# Altium integrated library TI Power Management Power Modules.IntLib: 831 symbols (part 31 of 44)
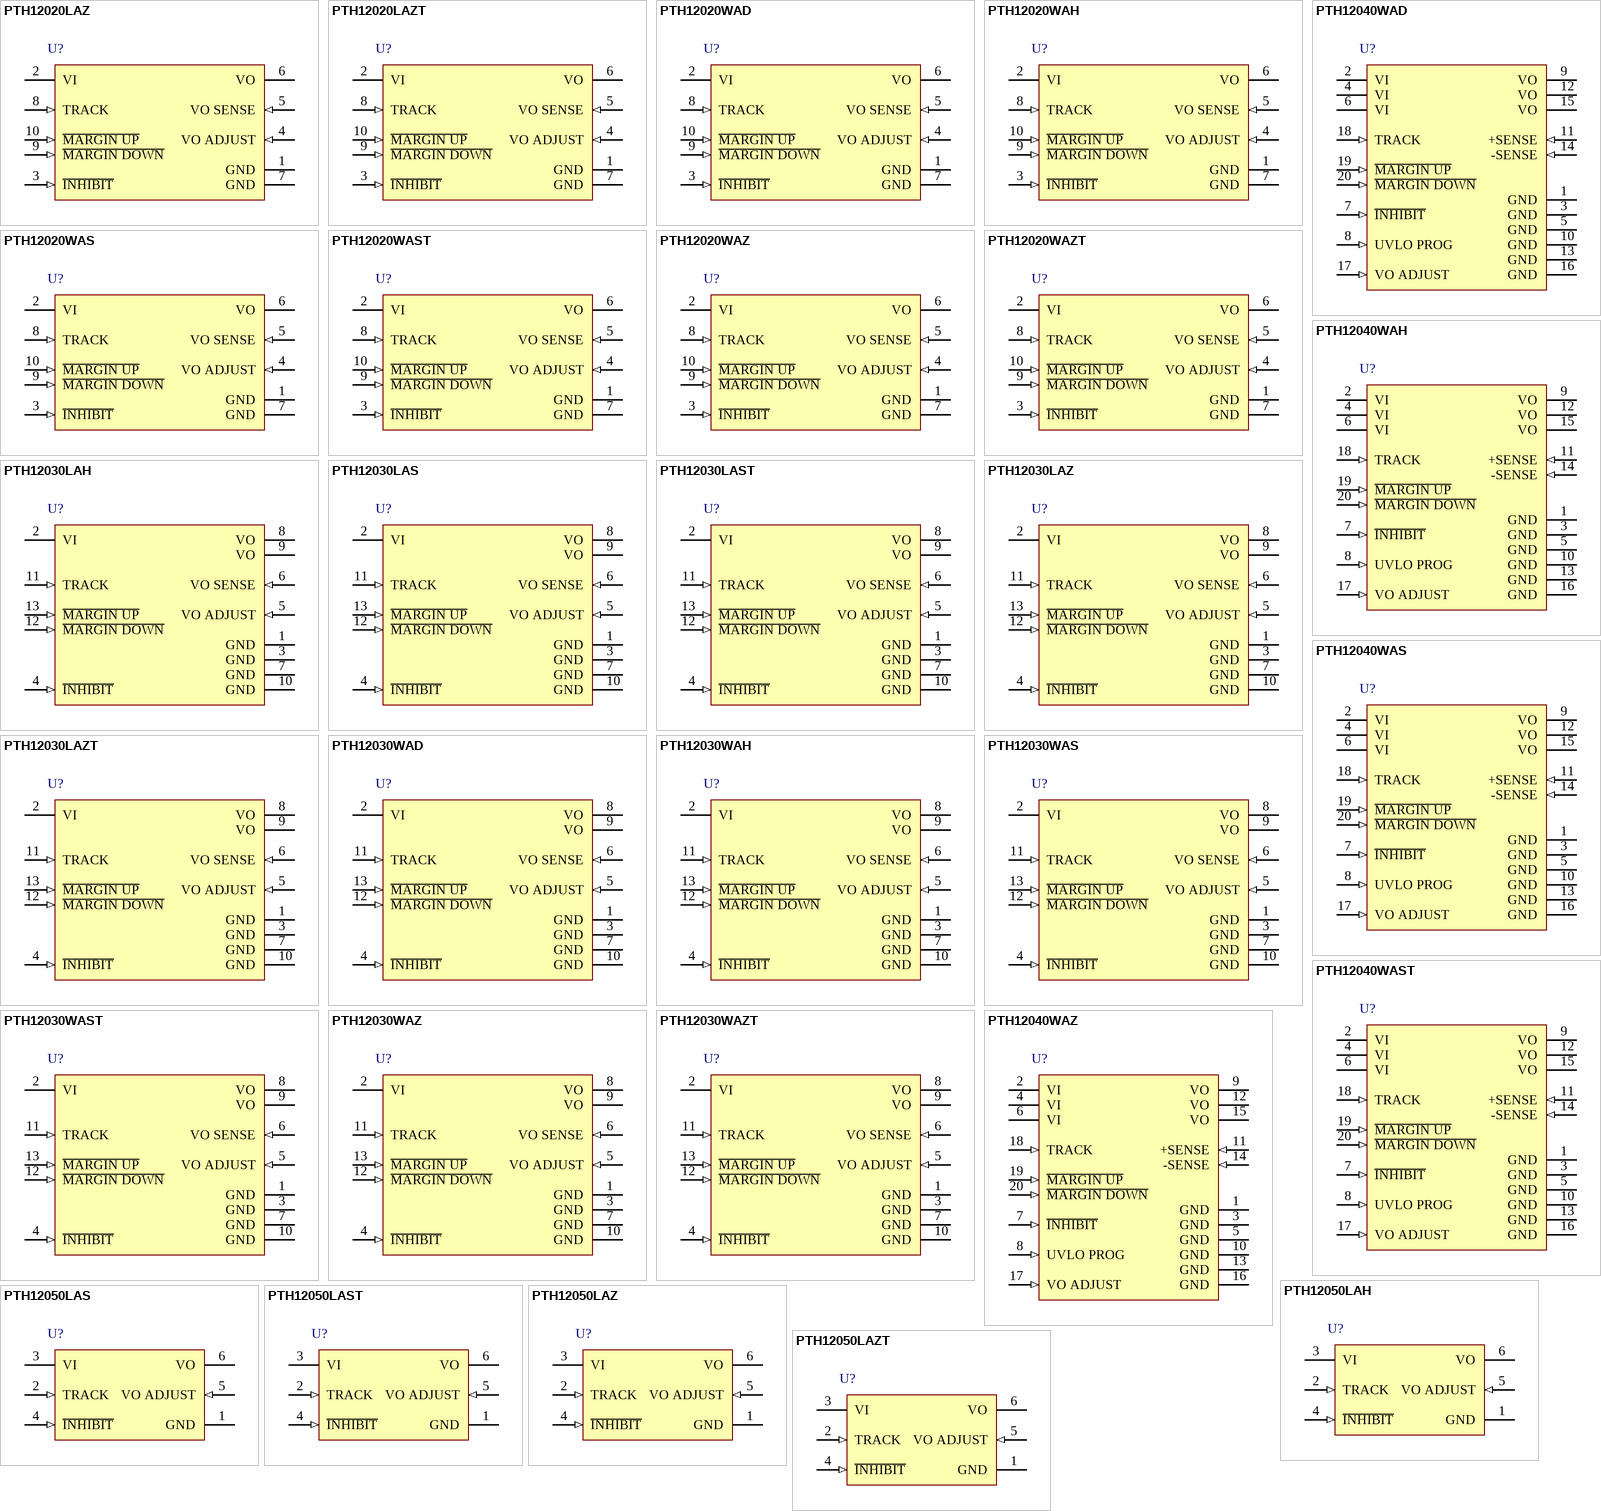
[diagram p53: symbols PTH12020LAZ to PTH12050LAZT]

## PTH12020WAS
designator U?
1.2 to 5.5 V, 18 A, 12 V Input Non-Isolated Wide Adjust Module, -40 to 85 degC, 10-pin Module (EUL10); Manufacturer: Texas Instruments; PartNumber: PTH12020WAS; Eco-Plan: TBD; Iout(Max)(A): 18; Regulated Outputs(#): 1; SubFamily: Non-Isolated POL; Vin(Max)(V): 13.2; Vin(Min)(V): 10.8; VO Adjustable: TRUE; Vout(Max)(V): 5.5; Vout(Min)(V): 1.2; DatasheetVersion: SLTS208I; PackageVersion: 4204987-3/C; PackageReference: EUL10; PackageDescription: 10-Pin Plastic Special Shape, Body 22.1 x 37.97 mm; Supplier 1: Digi-Key; Supplier Part Number 1: 296-20464-ND; Supplier 2: Newark; Supplier Part Number 2: 73H4320; Supplier 3: Mouser; Supplier Part Number 3: 595-PTH12020WAS; Mounting Technology: Surface Mount; ComponentLink1Description: Manufacturer URL; ComponentLink1URL: http://www.ti.com/; ComponentLink2Description: Datasheet; ComponentLink2URL: http://www.ti.com/general/docs/lit/getliterature.tsp?genericPartNumber=PTH12020W&fileType=pdf; ComponentLink3Description: Package Specification; ComponentLink3URL: http://www.ti.com/lit/ml/mpds138b/mpds138b.pdf; ComponentLink4Description: URL Link1; ComponentLink4URL: Samples URL:http://www.ti.com/product/pth12020w#samples
footprint TI-EUL10_V (Module, 10-Leads, Body 37.97x22.1 mm)
pins: 1 GND (power) "This is the common ground connection for the Vin and Vout power connections. It is also the 0 VDC reference for the control inputs.", 2 VI (power) "The positive input voltage power node to the module, which is referenced to common GND.", 3 ~{INHIBIT} (in) "The Inhibit pin is an open-collector/drain negative logic input that is referenced to GND. Applying a lowlevel ground signal to this input disables the module’s output and turns off the output voltage. When the Inhibit (See Datasheet)", 4 VO ADJUST (in) "A 1% resistor must be connected directly between this pin and GND (pin 7) to set the output voltage of the module higher than its lowest value. The temperature stability of the resistor should be 100 ppm/degreesC (or better).(See Datasheet)", 5 VO SENSE (in) "The sense input allows the regulation circuit to compensate for voltage drop between the module and the load. For optimal voltage accuracy Vo Sense should be connected to Vout. It can also be left disconnected.", 6 VO (power) "The regulated positive power output with respect to the GND node.", 7 GND (power) "This is the common ground connection for the Vin and Vout power connections. It is also the 0 VDC reference for the control inputs.", 8 TRACK (in) "This is an analog control input that enables the output voltage to follow an external voltage. This pin becomes active typically 20 ms after the input voltage has been applied, and allows direct control of the output voltage (See Datasheet)", 9 ~{MARGIN DOWN} (in) "When this input is asserted to GND, the output voltage is decreased by 5% from the nominal. The input requires an open-collector (open-drain) interface. It is not TTL compatible. A lower percent change can be accomodated (See Datasheet)", 10 ~{MARGIN UP} (in) "When this input is asserted to GND, the output voltage is increased by 5%. The input requires an open-collector (open-drain) interface. It is not TTL compatible. The percent change can be reduced with a series resistor. For (See Datasheet)"

## PTH12020WAST
designator U?
1.2 to 5.5 V, 18 A, 12 V Input Non-Isolated Wide Adjust Module, -40 to 85 degC, 10-pin Module (EUL10); Manufacturer: Texas Instruments; PartNumber: PTH12020WAST; Eco-Plan: TBD; Iout(Max)(A): 18; Regulated Outputs(#): 1; SubFamily: Non-Isolated POL; Vin(Max)(V): 13.2; Vin(Min)(V): 10.8; VO Adjustable: TRUE; Vout(Max)(V): 5.5; Vout(Min)(V): 1.2; DatasheetVersion: SLTS208I; PackageVersion: 4204987-3/C; PackageReference: EUL10; PackageDescription: 10-Pin Plastic Special Shape, Body 22.1 x 37.97 mm; Supplier 1: Digi-Key; Supplier Part Number 1: PTH12020WAST-ND; Supplier 2: Newark; Supplier Part Number 2: 01J0650; Supplier 3: Mouser; Supplier Part Number 3: 595-PTH12020WAST; Mounting Technology: Surface Mount; ComponentLink1Description: Manufacturer URL; ComponentLink1URL: http://www.ti.com/; ComponentLink2Description: Datasheet; ComponentLink2URL: http://www.ti.com/general/docs/lit/getliterature.tsp?genericPartNumber=PTH12020W&fileType=pdf; ComponentLink3Description: Package Specification; ComponentLink3URL: http://www.ti.com/lit/ml/mpds138b/mpds138b.pdf; ComponentLink4Description: URL Link1; ComponentLink4URL: Samples URL:http://www.ti.com/product/pth12020w#samples
footprint TI-EUL10_V (Module, 10-Leads, Body 37.97x22.1 mm)
pins: 1 GND (power) "This is the common ground connection for the Vin and Vout power connections. It is also the 0 VDC reference for the control inputs.", 2 VI (power) "The positive input voltage power node to the module, which is referenced to common GND.", 3 ~{INHIBIT} (in) "The Inhibit pin is an open-collector/drain negative logic input that is referenced to GND. Applying a lowlevel ground signal to this input disables the module’s output and turns off the output voltage. When the Inhibit (See Datasheet)", 4 VO ADJUST (in) "A 1% resistor must be connected directly between this pin and GND (pin 7) to set the output voltage of the module higher than its lowest value. The temperature stability of the resistor should be 100 ppm/degreesC (or better).(See Datasheet)", 5 VO SENSE (in) "The sense input allows the regulation circuit to compensate for voltage drop between the module and the load. For optimal voltage accuracy Vo Sense should be connected to Vout. It can also be left disconnected.", 6 VO (power) "The regulated positive power output with respect to the GND node.", 7 GND (power) "This is the common ground connection for the Vin and Vout power connections. It is also the 0 VDC reference for the control inputs.", 8 TRACK (in) "This is an analog control input that enables the output voltage to follow an external voltage. This pin becomes active typically 20 ms after the input voltage has been applied, and allows direct control of the output voltage (See Datasheet)", 9 ~{MARGIN DOWN} (in) "When this input is asserted to GND, the output voltage is decreased by 5% from the nominal. The input requires an open-collector (open-drain) interface. It is not TTL compatible. A lower percent change can be accomodated (See Datasheet)", 10 ~{MARGIN UP} (in) "When this input is asserted to GND, the output voltage is increased by 5%. The input requires an open-collector (open-drain) interface. It is not TTL compatible. The percent change can be reduced with a series resistor. For (See Datasheet)"

## PTH12020WAZ
designator U?
1.2 to 5.5 V, 18 A, 12 V Input Non-Isolated Wide Adjust Module, -40 to 85 degC, 10-pin Module (EUL10), Pb-Free (RoHS); Manufacturer: Texas Instruments; PartNumber: PTH12020WAZ; Iout(Max)(A): 18; Regulated Outputs(#): 1; SubFamily: Non-Isolated POL; Vin(Max)(V): 13.2; Vin(Min)(V): 10.8; VO Adjustable: TRUE; Vout(Max)(V): 5.5; Vout(Min)(V): 1.2; DatasheetVersion: SLTS208I; PackageVersion: 4204987-3/C; PackageReference: EUL10; PackageDescription: 10-Pin Plastic Special Shape, Body 22.1 x 37.97 mm; Supplier 1: Digi-Key; Supplier Part Number 1: 296-20465-ND; Supplier 2: Newark; Supplier Part Number 2: 37K0744; Supplier 3: Mouser; Supplier Part Number 3: 595-PTH12020WAZ; Eco-Plan: Pb-Free (RoHS); Mounting Technology: Surface Mount; ComponentLink1Description: Manufacturer URL; ComponentLink1URL: http://www.ti.com/; ComponentLink2Description: Datasheet; ComponentLink2URL: http://www.ti.com/general/docs/lit/getliterature.tsp?genericPartNumber=PTH12020W&fileType=pdf; ComponentLink3Description: Package Specification; ComponentLink3URL: http://www.ti.com/lit/ml/mpds138b/mpds138b.pdf; ComponentLink4Description: URL Link1; ComponentLink4URL: Samples URL:http://www.ti.com/product/pth12020w#samples
footprint TI-EUL10_V (Module, 10-Leads, Body 37.97x22.1 mm)
pins: 1 GND (power) "This is the common ground connection for the Vin and Vout power connections. It is also the 0 VDC reference for the control inputs.", 2 VI (power) "The positive input voltage power node to the module, which is referenced to common GND.", 3 ~{INHIBIT} (in) "The Inhibit pin is an open-collector/drain negative logic input that is referenced to GND. Applying a lowlevel ground signal to this input disables the module’s output and turns off the output voltage. When the Inhibit (See Datasheet)", 4 VO ADJUST (in) "A 1% resistor must be connected directly between this pin and GND (pin 7) to set the output voltage of the module higher than its lowest value. The temperature stability of the resistor should be 100 ppm/degreesC (or better).(See Datasheet)", 5 VO SENSE (in) "The sense input allows the regulation circuit to compensate for voltage drop between the module and the load. For optimal voltage accuracy Vo Sense should be connected to Vout. It can also be left disconnected.", 6 VO (power) "The regulated positive power output with respect to the GND node.", 7 GND (power) "This is the common ground connection for the Vin and Vout power connections. It is also the 0 VDC reference for the control inputs.", 8 TRACK (in) "This is an analog control input that enables the output voltage to follow an external voltage. This pin becomes active typically 20 ms after the input voltage has been applied, and allows direct control of the output voltage (See Datasheet)", 9 ~{MARGIN DOWN} (in) "When this input is asserted to GND, the output voltage is decreased by 5% from the nominal. The input requires an open-collector (open-drain) interface. It is not TTL compatible. A lower percent change can be accomodated (See Datasheet)", 10 ~{MARGIN UP} (in) "When this input is asserted to GND, the output voltage is increased by 5%. The input requires an open-collector (open-drain) interface. It is not TTL compatible. The percent change can be reduced with a series resistor. For (See Datasheet)"

## PTH12020WAZT
designator U?
1.2 to 5.5 V, 18 A, 12 V Input Non-Isolated Wide Adjust Module, -40 to 85 degC, 10-pin Module (EUL10), Pb-Free (RoHS); Manufacturer: Texas Instruments; PartNumber: PTH12020WAZT; Iout(Max)(A): 18; Regulated Outputs(#): 1; SubFamily: Non-Isolated POL; Vin(Max)(V): 13.2; Vin(Min)(V): 10.8; VO Adjustable: TRUE; Vout(Max)(V): 5.5; Vout(Min)(V): 1.2; DatasheetVersion: SLTS208I; PackageVersion: 4204987-3/C; PackageReference: EUL10; PackageDescription: 10-Pin Plastic Special Shape, Body 22.1 x 37.97 mm; Supplier 1: Digi-Key; Supplier Part Number 1: PTH12020WAZT-ND; Supplier 2: Newark; Supplier Part Number 2: 37K0745; Supplier 3: Mouser; Supplier Part Number 3: 595-PTH12020WAZT; Eco-Plan: Pb-Free (RoHS); Mounting Technology: Surface Mount; ComponentLink1Description: Manufacturer URL; ComponentLink1URL: http://www.ti.com/; ComponentLink2Description: Datasheet; ComponentLink2URL: http://www.ti.com/general/docs/lit/getliterature.tsp?genericPartNumber=PTH12020W&fileType=pdf; ComponentLink3Description: Package Specification; ComponentLink3URL: http://www.ti.com/lit/ml/mpds138b/mpds138b.pdf; ComponentLink4Description: URL Link1; ComponentLink4URL: Samples URL:http://www.ti.com/product/pth12020w#samples
footprint TI-EUL10_V (Module, 10-Leads, Body 37.97x22.1 mm)
pins: 1 GND (power) "This is the common ground connection for the Vin and Vout power connections. It is also the 0 VDC reference for the control inputs.", 2 VI (power) "The positive input voltage power node to the module, which is referenced to common GND.", 3 ~{INHIBIT} (in) "The Inhibit pin is an open-collector/drain negative logic input that is referenced to GND. Applying a lowlevel ground signal to this input disables the module’s output and turns off the output voltage. When the Inhibit (See Datasheet)", 4 VO ADJUST (in) "A 1% resistor must be connected directly between this pin and GND (pin 7) to set the output voltage of the module higher than its lowest value. The temperature stability of the resistor should be 100 ppm/degreesC (or better).(See Datasheet)", 5 VO SENSE (in) "The sense input allows the regulation circuit to compensate for voltage drop between the module and the load. For optimal voltage accuracy Vo Sense should be connected to Vout. It can also be left disconnected.", 6 VO (power) "The regulated positive power output with respect to the GND node.", 7 GND (power) "This is the common ground connection for the Vin and Vout power connections. It is also the 0 VDC reference for the control inputs.", 8 TRACK (in) "This is an analog control input that enables the output voltage to follow an external voltage. This pin becomes active typically 20 ms after the input voltage has been applied, and allows direct control of the output voltage (See Datasheet)", 9 ~{MARGIN DOWN} (in) "When this input is asserted to GND, the output voltage is decreased by 5% from the nominal. The input requires an open-collector (open-drain) interface. It is not TTL compatible. A lower percent change can be accomodated (See Datasheet)", 10 ~{MARGIN UP} (in) "When this input is asserted to GND, the output voltage is increased by 5%. The input requires an open-collector (open-drain) interface. It is not TTL compatible. The percent change can be reduced with a series resistor. For (See Datasheet)"

## PTH12030LAH
designator U?
0.8 to 1.8 V 26 A, 12 V Input Non-Isolated Wide Adjust Module, -40 to 85 degC, 13-pin Module (EUM13), Pb-Free (RoHS); Manufacturer: Texas Instruments; PartNumber: PTH12030LAH; Iout(Max)(A): 26; Regulated Outputs(#): 1; SubFamily: Non-Isolated POL; Vin(Max)(V): 13.2; Vin(Min)(V): 10.8; VO Adjustable: TRUE; Vout(Max)(V): 1.8; Vout(Min)(V): 0.8; DatasheetVersion: SLTS211H; PackageVersion: 4204988/B; PackageReference: EUM13; PackageDescription: 13-Pin Plastic Special Shape, Body 28.45 x 34.8 mm; Supplier 1: Digi-Key; Supplier Part Number 1: 296-20466-ND; Supplier 2: Newark; Supplier Part Number 2: 21J8888; Supplier 3: Mouser; Supplier Part Number 3: 595-PTH12030LAH; Eco-Plan: Pb-Free (RoHS); Mounting Technology: Through Hole; ComponentLink1Description: Manufacturer URL; ComponentLink1URL: http://www.ti.com/; ComponentLink2Description: Datasheet; ComponentLink2URL: http://www.ti.com/general/docs/lit/getliterature.tsp?genericPartNumber=PTH12030L&fileType=pdf; ComponentLink3Description: Package Specification; ComponentLink3URL: http://www.ti.com/litv/pdf/mpds134a; ComponentLink4Description: URL Link1; ComponentLink4URL: Samples URL:http://www.ti.com/product/pth12030l#samples
footprint TI-EUM13_V (Module, 13-Leads, Body 34.8x28.45mm)
pins: 1 GND (power) "This is the common ground connection for the VI and VO power connections. It is also the 0 Vdc reference for the control inputs.", 2 VI (power) "The positive input voltage power node to the module, which is referenced to common GND.", 3 GND (power) "This is the common ground connection for the VI and VO power connections. It is also the 0 Vdc reference for the control inputs.", 4 ~{INHIBIT} (in) "The Inhibit pin is an open-collector/drain negative logic input that is referenced to GND. Applying a low-level ground signal to this input disables the module’s output and turns off the output voltage. When the Inhibit (See Datasheet)", 5 VO ADJUST (in) "A 1% resistor must be directly connected between this pin and pin 7 (GND) to set the output voltage to a value higher than 0.8 V. The temperature stability of the resistor should be 100 ppm/degreesC (or better). The set (See Datasheet)", 6 VO SENSE (in) "The sense input allows the regulation circuit to compensate for voltage drop between the module and the load. For optimal voltage accuracy, VO Sense should be connected to Vout. It can also be left disconnected.", 7 GND (power) "This is the common ground connection for the VI and VO power connections. It is also the 0 Vdc reference for the control inputs.", 8 VO (power) "The regulated positive power output with respect to the GND node.", 9 VO (power) "The regulated positive power output with respect to the GND node.", 10 GND (power) "This is the common ground connection for the VI and VO power connections. It is also the 0 Vdc reference for the control inputs.", 11 TRACK (in) "This is an analog control input that enables the output voltage to follow an external voltage. This pin becomes active typically 20 ms after the input voltage has been applied, and allows direct control of the output voltage (See Datasheet)", 12 ~{MARGIN DOWN} (in) "When this input is asserted to GND, the output voltage is decreased by 5% from the nominal. The input requires an open-collector (open-drain) interface. It is not TTL compatible. A lower percent change can be accomodated (See Datasheet)", 13 ~{MARGIN UP} (in) "When this input is asserted to GND, the output voltage is increased by 5%. The input requires an open-collector (open-drain) interface. It is not TTL compatible. The percent change can be reduced with a series resistor. For (See Datasheet)"

## PTH12030LAS
designator U?
0.8 to 1.8 V 26 A, 12 V Input Non-Isolated Wide Adjust Module, -40 to 85 degC, 13-pin Module (EUN13); Manufacturer: Texas Instruments; PartNumber: PTH12030LAS; Eco-Plan: TBD; Iout(Max)(A): 26; Regulated Outputs(#): 1; SubFamily: Non-Isolated POL; Vin(Max)(V): 13.2; Vin(Min)(V): 10.8; VO Adjustable: TRUE; Vout(Max)(V): 1.8; Vout(Min)(V): 0.8; DatasheetVersion: SLTS211H; PackageVersion: 4204989/B; PackageReference: EUN13; PackageDescription: 13-Pin Plastic Special Shape. Body 28.45 x 34.8 mm; Supplier 1: Digi-Key; Supplier Part Number 1: 296-20467-ND; Supplier 2: Newark; Supplier Part Number 2: 21J8889; Supplier 3: Mouser; Supplier Part Number 3: 595-PTH12030LAS; Mounting Technology: Surface Mount; ComponentLink1Description: Manufacturer URL; ComponentLink1URL: http://www.ti.com/; ComponentLink2Description: Datasheet; ComponentLink2URL: http://www.ti.com/general/docs/lit/getliterature.tsp?genericPartNumber=PTH12030L&fileType=pdf; ComponentLink3Description: Package Specification; ComponentLink3URL: http://www.ti.com/lit/ml/mpds135a/mpds135a.pdf; ComponentLink4Description: URL Link1; ComponentLink4URL: Samples URL:http://www.ti.com/product/pth12030l#samples
footprint TI-EUN13_V (Module, 13-Leads, Body 34.8x28.45mm)
pins: 1 GND (power) "This is the common ground connection for the VI and VO power connections. It is also the 0 Vdc reference for the control inputs.", 2 VI (power) "The positive input voltage power node to the module, which is referenced to common GND.", 3 GND (power) "This is the common ground connection for the VI and VO power connections. It is also the 0 Vdc reference for the control inputs.", 4 ~{INHIBIT} (in) "The Inhibit pin is an open-collector/drain negative logic input that is referenced to GND. Applying a low-level ground signal to this input disables the module’s output and turns off the output voltage. When the Inhibit (See Datasheet)", 5 VO ADJUST (in) "A 1% resistor must be directly connected between this pin and pin 7 (GND) to set the output voltage to a value higher than 0.8 V. The temperature stability of the resistor should be 100 ppm/degreesC (or better). The set (See Datasheet)", 6 VO SENSE (in) "The sense input allows the regulation circuit to compensate for voltage drop between the module and the load. For optimal voltage accuracy, VO Sense should be connected to Vout. It can also be left disconnected.", 7 GND (power) "This is the common ground connection for the VI and VO power connections. It is also the 0 Vdc reference for the control inputs.", 8 VO (power) "The regulated positive power output with respect to the GND node.", 9 VO (power) "The regulated positive power output with respect to the GND node.", 10 GND (power) "This is the common ground connection for the VI and VO power connections. It is also the 0 Vdc reference for the control inputs.", 11 TRACK (in) "This is an analog control input that enables the output voltage to follow an external voltage. This pin becomes active typically 20 ms after the input voltage has been applied, and allows direct control of the output voltage (See Datasheet)", 12 ~{MARGIN DOWN} (in) "When this input is asserted to GND, the output voltage is decreased by 5% from the nominal. The input requires an open-collector (open-drain) interface. It is not TTL compatible. A lower percent change can be accomodated (See Datasheet)", 13 ~{MARGIN UP} (in) "When this input is asserted to GND, the output voltage is increased by 5%. The input requires an open-collector (open-drain) interface. It is not TTL compatible. The percent change can be reduced with a series resistor. For (See Datasheet)"

## PTH12030LAST
designator U?
0.8 to 1.8 V 26 A, 12 V Input Non-Isolated Wide Adjust Module, -40 to 85 degC, 13-pin Module (EUN13); Manufacturer: Texas Instruments; PartNumber: PTH12030LAST; Eco-Plan: TBD; Iout(Max)(A): 26; Regulated Outputs(#): 1; SubFamily: Non-Isolated POL; Vin(Max)(V): 13.2; Vin(Min)(V): 10.8; VO Adjustable: TRUE; Vout(Max)(V): 1.8; Vout(Min)(V): 0.8; DatasheetVersion: SLTS211H; PackageVersion: 4204989/B; PackageReference: EUN13; PackageDescription: 13-Pin Plastic Special Shape. Body 28.45 x 34.8 mm; Supplier 1: Digi-Key; Supplier Part Number 1: PTH12030LAST-ND; Supplier 2: Newark; Supplier Part Number 2: 21J8890; Supplier 3: Mouser; Supplier Part Number 3: 595-PTH12030LAST; Mounting Technology: Surface Mount; ComponentLink1Description: Manufacturer URL; ComponentLink1URL: http://www.ti.com/; ComponentLink2Description: Datasheet; ComponentLink2URL: http://www.ti.com/general/docs/lit/getliterature.tsp?genericPartNumber=PTH12030L&fileType=pdf; ComponentLink3Description: Package Specification; ComponentLink3URL: http://www.ti.com/lit/ml/mpds135a/mpds135a.pdf; ComponentLink4Description: URL Link1; ComponentLink4URL: Samples URL:http://www.ti.com/product/pth12030l#samples
footprint TI-EUN13_V (Module, 13-Leads, Body 34.8x28.45mm)
pins: 1 GND (power) "This is the common ground connection for the VI and VO power connections. It is also the 0 Vdc reference for the control inputs.", 2 VI (power) "The positive input voltage power node to the module, which is referenced to common GND.", 3 GND (power) "This is the common ground connection for the VI and VO power connections. It is also the 0 Vdc reference for the control inputs.", 4 ~{INHIBIT} (in) "The Inhibit pin is an open-collector/drain negative logic input that is referenced to GND. Applying a low-level ground signal to this input disables the module’s output and turns off the output voltage. When the Inhibit (See Datasheet)", 5 VO ADJUST (in) "A 1% resistor must be directly connected between this pin and pin 7 (GND) to set the output voltage to a value higher than 0.8 V. The temperature stability of the resistor should be 100 ppm/degreesC (or better). The set (See Datasheet)", 6 VO SENSE (in) "The sense input allows the regulation circuit to compensate for voltage drop between the module and the load. For optimal voltage accuracy, VO Sense should be connected to Vout. It can also be left disconnected.", 7 GND (power) "This is the common ground connection for the VI and VO power connections. It is also the 0 Vdc reference for the control inputs.", 8 VO (power) "The regulated positive power output with respect to the GND node.", 9 VO (power) "The regulated positive power output with respect to the GND node.", 10 GND (power) "This is the common ground connection for the VI and VO power connections. It is also the 0 Vdc reference for the control inputs.", 11 TRACK (in) "This is an analog control input that enables the output voltage to follow an external voltage. This pin becomes active typically 20 ms after the input voltage has been applied, and allows direct control of the output voltage (See Datasheet)", 12 ~{MARGIN DOWN} (in) "When this input is asserted to GND, the output voltage is decreased by 5% from the nominal. The input requires an open-collector (open-drain) interface. It is not TTL compatible. A lower percent change can be accomodated (See Datasheet)", 13 ~{MARGIN UP} (in) "When this input is asserted to GND, the output voltage is increased by 5%. The input requires an open-collector (open-drain) interface. It is not TTL compatible. The percent change can be reduced with a series resistor. For (See Datasheet)"

## PTH12030LAZ
designator U?
0.8 to 1.8 V 26 A, 12 V Input Non-Isolated Wide Adjust Module, -40 to 85 degC, 13-pin Module (EUN13), Pb-Free (RoHS); Manufacturer: Texas Instruments; PartNumber: PTH12030LAZ; Iout(Max)(A): 26; Regulated Outputs(#): 1; SubFamily: Non-Isolated POL; Vin(Max)(V): 13.2; Vin(Min)(V): 10.8; VO Adjustable: TRUE; Vout(Max)(V): 1.8; Vout(Min)(V): 0.8; DatasheetVersion: SLTS211H; PackageVersion: 4204989/B; PackageReference: EUN13; PackageDescription: 13-Pin Plastic Special Shape. Body 28.45 x 34.8 mm; Supplier 1: Digi-Key; Supplier Part Number 1: 296-20468-ND; Supplier 2: Newark; Supplier Part Number 2: 37K0746; Supplier 3: Mouser; Supplier Part Number 3: 595-PTH12030LAZ; Eco-Plan: Pb-Free (RoHS); Mounting Technology: Surface Mount; ComponentLink1Description: Manufacturer URL; ComponentLink1URL: http://www.ti.com/; ComponentLink2Description: Datasheet; ComponentLink2URL: http://www.ti.com/general/docs/lit/getliterature.tsp?genericPartNumber=PTH12030L&fileType=pdf; ComponentLink3Description: Package Specification; ComponentLink3URL: http://www.ti.com/lit/ml/mpds135a/mpds135a.pdf; ComponentLink4Description: URL Link1; ComponentLink4URL: Samples URL:http://www.ti.com/product/pth12030l#samples
footprint TI-EUN13_V (Module, 13-Leads, Body 34.8x28.45mm)
pins: 1 GND (power) "This is the common ground connection for the VI and VO power connections. It is also the 0 Vdc reference for the control inputs.", 2 VI (power) "The positive input voltage power node to the module, which is referenced to common GND.", 3 GND (power) "This is the common ground connection for the VI and VO power connections. It is also the 0 Vdc reference for the control inputs.", 4 ~{INHIBIT} (in) "The Inhibit pin is an open-collector/drain negative logic input that is referenced to GND. Applying a low-level ground signal to this input disables the module’s output and turns off the output voltage. When the Inhibit (See Datasheet)", 5 VO ADJUST (in) "A 1% resistor must be directly connected between this pin and pin 7 (GND) to set the output voltage to a value higher than 0.8 V. The temperature stability of the resistor should be 100 ppm/degreesC (or better). The set (See Datasheet)", 6 VO SENSE (in) "The sense input allows the regulation circuit to compensate for voltage drop between the module and the load. For optimal voltage accuracy, VO Sense should be connected to Vout. It can also be left disconnected.", 7 GND (power) "This is the common ground connection for the VI and VO power connections. It is also the 0 Vdc reference for the control inputs.", 8 VO (power) "The regulated positive power output with respect to the GND node.", 9 VO (power) "The regulated positive power output with respect to the GND node.", 10 GND (power) "This is the common ground connection for the VI and VO power connections. It is also the 0 Vdc reference for the control inputs.", 11 TRACK (in) "This is an analog control input that enables the output voltage to follow an external voltage. This pin becomes active typically 20 ms after the input voltage has been applied, and allows direct control of the output voltage (See Datasheet)", 12 ~{MARGIN DOWN} (in) "When this input is asserted to GND, the output voltage is decreased by 5% from the nominal. The input requires an open-collector (open-drain) interface. It is not TTL compatible. A lower percent change can be accomodated (See Datasheet)", 13 ~{MARGIN UP} (in) "When this input is asserted to GND, the output voltage is increased by 5%. The input requires an open-collector (open-drain) interface. It is not TTL compatible. The percent change can be reduced with a series resistor. For (See Datasheet)"

## PTH12030LAZT
designator U?
0.8 to 1.8 V 26 A, 12 V Input Non-Isolated Wide Adjust Module, -40 to 85 degC, 13-pin Module (EUN13), Pb-Free (RoHS); Manufacturer: Texas Instruments; PartNumber: PTH12030LAZT; Iout(Max)(A): 26; Regulated Outputs(#): 1; SubFamily: Non-Isolated POL; Vin(Max)(V): 13.2; Vin(Min)(V): 10.8; VO Adjustable: TRUE; Vout(Max)(V): 1.8; Vout(Min)(V): 0.8; DatasheetVersion: SLTS211H; PackageVersion: 4204989/B; PackageReference: EUN13; PackageDescription: 13-Pin Plastic Special Shape. Body 28.45 x 34.8 mm; Supplier 1: Digi-Key; Supplier Part Number 1: PTH12030LAZT-ND; Supplier 2: Mouser; Supplier Part Number 2: 595-PTH12030LAZT; Eco-Plan: Pb-Free (RoHS); Mounting Technology: Surface Mount; ComponentLink1Description: Manufacturer URL; ComponentLink1URL: http://www.ti.com/; ComponentLink2Description: Datasheet; ComponentLink2URL: http://www.ti.com/general/docs/lit/getliterature.tsp?genericPartNumber=PTH12030L&fileType=pdf; ComponentLink3Description: Package Specification; ComponentLink3URL: http://www.ti.com/lit/ml/mpds135a/mpds135a.pdf; ComponentLink4Description: URL Link1; ComponentLink4URL: Samples URL:http://www.ti.com/product/tps55010#samples
footprint TI-EUN13_V (Module, 13-Leads, Body 34.8x28.45mm)
pins: 1 GND (power) "This is the common ground connection for the VI and VO power connections. It is also the 0 Vdc reference for the control inputs.", 2 VI (power) "The positive input voltage power node to the module, which is referenced to common GND.", 3 GND (power) "This is the common ground connection for the VI and VO power connections. It is also the 0 Vdc reference for the control inputs.", 4 ~{INHIBIT} (in) "The Inhibit pin is an open-collector/drain negative logic input that is referenced to GND. Applying a low-level ground signal to this input disables the module’s output and turns off the output voltage. When the Inhibit (See Datasheet)", 5 VO ADJUST (in) "A 1% resistor must be directly connected between this pin and pin 7 (GND) to set the output voltage to a value higher than 0.8 V. The temperature stability of the resistor should be 100 ppm/degreesC (or better). The set (See Datasheet)", 6 VO SENSE (in) "The sense input allows the regulation circuit to compensate for voltage drop between the module and the load. For optimal voltage accuracy, VO Sense should be connected to Vout. It can also be left disconnected.", 7 GND (power) "This is the common ground connection for the VI and VO power connections. It is also the 0 Vdc reference for the control inputs.", 8 VO (power) "The regulated positive power output with respect to the GND node.", 9 VO (power) "The regulated positive power output with respect to the GND node.", 10 GND (power) "This is the common ground connection for the VI and VO power connections. It is also the 0 Vdc reference for the control inputs.", 11 TRACK (in) "This is an analog control input that enables the output voltage to follow an external voltage. This pin becomes active typically 20 ms after the input voltage has been applied, and allows direct control of the output voltage (See Datasheet)", 12 ~{MARGIN DOWN} (in) "When this input is asserted to GND, the output voltage is decreased by 5% from the nominal. The input requires an open-collector (open-drain) interface. It is not TTL compatible. A lower percent change can be accomodated (See Datasheet)", 13 ~{MARGIN UP} (in) "When this input is asserted to GND, the output voltage is increased by 5%. The input requires an open-collector (open-drain) interface. It is not TTL compatible. The percent change can be reduced with a series resistor. For (See Datasheet)"

## PTH12030WAD
designator U?
1.2 to 5.5 V, 26 A, 12 V Input Non-Isolated Wide Adjust Module, -40 to 85 degC, 13-pin Module (EUM13), Pb-Free (RoHS); Manufacturer: Texas Instruments; PartNumber: PTH12030WAD; Iout(Max)(A): 26; Regulated Outputs(#): 1; SubFamily: Non-Isolated POL; Vin(Max)(V): 13.8; Vin(Min)(V): 10.2; VO Adjustable: TRUE; Vout(Max)(V): 5.5; Vout(Min)(V): 1.2; DatasheetVersion: SLTS211H; PackageVersion: 4204988/B; PackageReference: EUM13; PackageDescription: 13-Pin Plastic Special Shape, Body 28.45 x 34.8 mm; Supplier 1: Digi-Key; Supplier Part Number 1: 296-32719-ND; Supplier 2: Newark; Supplier Part Number 2: 58K6012; Supplier 3: Mouser; Supplier Part Number 3: 595-PTH12030WAD; Eco-Plan: Pb-Free (RoHS); Mounting Technology: Through Hole; ComponentLink1Description: Manufacturer URL; ComponentLink1URL: http://www.ti.com/; ComponentLink2Description: Datasheet; ComponentLink2URL: http://www.ti.com/general/docs/lit/getliterature.tsp?genericPartNumber=PTH12030W&fileType=pdf; ComponentLink3Description: Package Specification; ComponentLink3URL: http://www.ti.com/litv/pdf/mpds134a; ComponentLink4Description: URL Link1; ComponentLink4URL: Samples URL:http://www.ti.com/product/pth12030w#samples
footprint TI-EUM13_V (Module, 13-Leads, Body 34.8x28.45mm)
pins: 1 GND (power) "This is the common ground connection for the VI and VO power connections. It is also the 0 Vdc reference for the control inputs.", 2 VI (power) "The positive input voltage power node to the module, which is referenced to common GND.", 3 GND (power) "This is the common ground connection for the VI and VO power connections. It is also the 0 Vdc reference for the control inputs.", 4 ~{INHIBIT} (in) "The Inhibit pin is an open-collector/drain negative logic input that is referenced to GND. Applying a low-level ground signal to this input disables the module’s output and turns off the output voltage. When the Inhibit (See Datasheet)", 5 VO ADJUST (in) "A 1% resistor must be directly connected between this pin and pin 7 (GND) to set the output voltage to a value higher than 0.8 V. The temperature stability of the resistor should be 100 ppm/degreesC (or better). The set (See Datasheet)", 6 VO SENSE (in) "The sense input allows the regulation circuit to compensate for voltage drop between the module and the load. For optimal voltage accuracy, VO Sense should be connected to Vout. It can also be left disconnected.", 7 GND (power) "This is the common ground connection for the VI and VO power connections. It is also the 0 Vdc reference for the control inputs.", 8 VO (power) "The regulated positive power output with respect to the GND node.", 9 VO (power) "The regulated positive power output with respect to the GND node.", 10 GND (power) "This is the common ground connection for the VI and VO power connections. It is also the 0 Vdc reference for the control inputs.", 11 TRACK (in) "This is an analog control input that enables the output voltage to follow an external voltage. This pin becomes active typically 20 ms after the input voltage has been applied, and allows direct control of the output voltage (See Datasheet)", 12 ~{MARGIN DOWN} (in) "When this input is asserted to GND, the output voltage is decreased by 5% from the nominal. The input requires an open-collector (open-drain) interface. It is not TTL compatible. A lower percent change can be accomodated (See Datasheet)", 13 ~{MARGIN UP} (in) "When this input is asserted to GND, the output voltage is increased by 5%. The input requires an open-collector (open-drain) interface. It is not TTL compatible. The percent change can be reduced with a series resistor. For (See Datasheet)"

## PTH12030WAH
designator U?
1.2 to 5.5 V, 26 A, 12 V Input Non-Isolated Wide Adjust Module, -40 to 85 degC, 13-pin Module (EUM13), Pb-Free (RoHS); Manufacturer: Texas Instruments; PartNumber: PTH12030WAH; Iout(Max)(A): 26; Regulated Outputs(#): 1; SubFamily: Non-Isolated POL; Vin(Max)(V): 13.8; Vin(Min)(V): 10.2; VO Adjustable: TRUE; Vout(Max)(V): 5.5; Vout(Min)(V): 1.2; DatasheetVersion: SLTS211H; PackageVersion: 4204988/B; PackageReference: EUM13; PackageDescription: 13-Pin Plastic Special Shape, Body 28.45 x 34.8 mm; Supplier 1: Digi-Key; Supplier Part Number 1: 296-20469-ND; Supplier 2: Newark; Supplier Part Number 2: 90H3326; Supplier 3: Mouser; Supplier Part Number 3: 595-PTH12030WAH; Eco-Plan: Pb-Free (RoHS); Mounting Technology: Through Hole; ComponentLink1Description: Manufacturer URL; ComponentLink1URL: http://www.ti.com/; ComponentLink2Description: Datasheet; ComponentLink2URL: http://www.ti.com/general/docs/lit/getliterature.tsp?genericPartNumber=PTH12030W&fileType=pdf; ComponentLink3Description: Package Specification; ComponentLink3URL: http://www.ti.com/litv/pdf/mpds134a; ComponentLink4Description: URL Link1; ComponentLink4URL: Samples URL:http://www.ti.com/product/pth12030w#samples
footprint TI-EUM13_V (Module, 13-Leads, Body 34.8x28.45mm)
pins: 1 GND (power) "This is the common ground connection for the VI and VO power connections. It is also the 0 Vdc reference for the control inputs.", 2 VI (power) "The positive input voltage power node to the module, which is referenced to common GND.", 3 GND (power) "This is the common ground connection for the VI and VO power connections. It is also the 0 Vdc reference for the control inputs.", 4 ~{INHIBIT} (in) "The Inhibit pin is an open-collector/drain negative logic input that is referenced to GND. Applying a low-level ground signal to this input disables the module’s output and turns off the output voltage. When the Inhibit (See Datasheet)", 5 VO ADJUST (in) "A 1% resistor must be directly connected between this pin and pin 7 (GND) to set the output voltage to a value higher than 0.8 V. The temperature stability of the resistor should be 100 ppm/degreesC (or better). The set (See Datasheet)", 6 VO SENSE (in) "The sense input allows the regulation circuit to compensate for voltage drop between the module and the load. For optimal voltage accuracy, VO Sense should be connected to Vout. It can also be left disconnected.", 7 GND (power) "This is the common ground connection for the VI and VO power connections. It is also the 0 Vdc reference for the control inputs.", 8 VO (power) "The regulated positive power output with respect to the GND node.", 9 VO (power) "The regulated positive power output with respect to the GND node.", 10 GND (power) "This is the common ground connection for the VI and VO power connections. It is also the 0 Vdc reference for the control inputs.", 11 TRACK (in) "This is an analog control input that enables the output voltage to follow an external voltage. This pin becomes active typically 20 ms after the input voltage has been applied, and allows direct control of the output voltage (See Datasheet)", 12 ~{MARGIN DOWN} (in) "When this input is asserted to GND, the output voltage is decreased by 5% from the nominal. The input requires an open-collector (open-drain) interface. It is not TTL compatible. A lower percent change can be accomodated (See Datasheet)", 13 ~{MARGIN UP} (in) "When this input is asserted to GND, the output voltage is increased by 5%. The input requires an open-collector (open-drain) interface. It is not TTL compatible. The percent change can be reduced with a series resistor. For (See Datasheet)"

## PTH12030WAS
designator U?
1.2 to 5.5 V, 26 A, 12 V Input Non-Isolated Wide Adjust Module, -40 to 85 degC, 13-pin Module (EUN13); Manufacturer: Texas Instruments; PartNumber: PTH12030WAS; Eco-Plan: TBD; Iout(Max)(A): 26; Regulated Outputs(#): 1; SubFamily: Non-Isolated POL; Vin(Max)(V): 13.8; Vin(Min)(V): 10.2; VO Adjustable: TRUE; Vout(Max)(V): 5.5; Vout(Min)(V): 1.2; DatasheetVersion: SLTS211H; PackageVersion: 4204989/B; PackageReference: EUN13; PackageDescription: 13-Pin Plastic Special Shape. Body 28.45 x 34.8 mm; Supplier 1: Digi-Key; Supplier Part Number 1: 296-20470-ND; Supplier 2: Mouser; Supplier Part Number 2: 595-PTH12030WAS; Mounting Technology: Surface Mount; ComponentLink1Description: Manufacturer URL; ComponentLink1URL: http://www.ti.com/; ComponentLink2Description: Datasheet; ComponentLink2URL: http://www.ti.com/general/docs/lit/getliterature.tsp?genericPartNumber=PTH12030W&fileType=pdf; ComponentLink3Description: Package Specification; ComponentLink3URL: http://www.ti.com/lit/ml/mpds135a/mpds135a.pdf; ComponentLink4Description: URL Link1; ComponentLink4URL: Samples URL:http://www.ti.com/product/pth12030w#samples
footprint TI-EUN13_V (Module, 13-Leads, Body 34.8x28.45mm)
pins: 1 GND (power) "This is the common ground connection for the VI and VO power connections. It is also the 0 Vdc reference for the control inputs.", 2 VI (power) "The positive input voltage power node to the module, which is referenced to common GND.", 3 GND (power) "This is the common ground connection for the VI and VO power connections. It is also the 0 Vdc reference for the control inputs.", 4 ~{INHIBIT} (in) "The Inhibit pin is an open-collector/drain negative logic input that is referenced to GND. Applying a low-level ground signal to this input disables the module’s output and turns off the output voltage. When the Inhibit (See Datasheet)", 5 VO ADJUST (in) "A 1% resistor must be directly connected between this pin and pin 7 (GND) to set the output voltage to a value higher than 0.8 V. The temperature stability of the resistor should be 100 ppm/degreesC (or better). The set (See Datasheet)", 6 VO SENSE (in) "The sense input allows the regulation circuit to compensate for voltage drop between the module and the load. For optimal voltage accuracy, VO Sense should be connected to Vout. It can also be left disconnected.", 7 GND (power) "This is the common ground connection for the VI and VO power connections. It is also the 0 Vdc reference for the control inputs.", 8 VO (power) "The regulated positive power output with respect to the GND node.", 9 VO (power) "The regulated positive power output with respect to the GND node.", 10 GND (power) "This is the common ground connection for the VI and VO power connections. It is also the 0 Vdc reference for the control inputs.", 11 TRACK (in) "This is an analog control input that enables the output voltage to follow an external voltage. This pin becomes active typically 20 ms after the input voltage has been applied, and allows direct control of the output voltage (See Datasheet)", 12 ~{MARGIN DOWN} (in) "When this input is asserted to GND, the output voltage is decreased by 5% from the nominal. The input requires an open-collector (open-drain) interface. It is not TTL compatible. A lower percent change can be accomodated (See Datasheet)", 13 ~{MARGIN UP} (in) "When this input is asserted to GND, the output voltage is increased by 5%. The input requires an open-collector (open-drain) interface. It is not TTL compatible. The percent change can be reduced with a series resistor. For (See Datasheet)"

## PTH12030WAST
designator U?
1.2 to 5.5 V, 26 A, 12 V Input Non-Isolated Wide Adjust Module, -40 to 85 degC, 13-pin Module (EUN13); Manufacturer: Texas Instruments; PartNumber: PTH12030WAST; Eco-Plan: TBD; Iout(Max)(A): 26; Regulated Outputs(#): 1; SubFamily: Non-Isolated POL; Vin(Max)(V): 13.8; Vin(Min)(V): 10.2; VO Adjustable: TRUE; Vout(Max)(V): 5.5; Vout(Min)(V): 1.2; DatasheetVersion: SLTS211H; PackageVersion: 4204989/B; PackageReference: EUN13; PackageDescription: 13-Pin Plastic Special Shape. Body 28.45 x 34.8 mm; Supplier 1: Digi-Key; Supplier Part Number 1: PTH12030WAST-ND; Supplier 2: Newark; Supplier Part Number 2: 01J0651; Supplier 3: Mouser; Supplier Part Number 3: 595-PTH12030WAST; Mounting Technology: Surface Mount; ComponentLink1Description: Manufacturer URL; ComponentLink1URL: http://www.ti.com/; ComponentLink2Description: Datasheet; ComponentLink2URL: http://www.ti.com/general/docs/lit/getliterature.tsp?genericPartNumber=PTH12030W&fileType=pdf; ComponentLink3Description: Package Specification; ComponentLink3URL: http://www.ti.com/lit/ml/mpds135a/mpds135a.pdf; ComponentLink4Description: URL Link1; ComponentLink4URL: Samples URL:http://www.ti.com/product/pth12030w#samples
footprint TI-EUN13_V (Module, 13-Leads, Body 34.8x28.45mm)
pins: 1 GND (power) "This is the common ground connection for the VI and VO power connections. It is also the 0 Vdc reference for the control inputs.", 2 VI (power) "The positive input voltage power node to the module, which is referenced to common GND.", 3 GND (power) "This is the common ground connection for the VI and VO power connections. It is also the 0 Vdc reference for the control inputs.", 4 ~{INHIBIT} (in) "The Inhibit pin is an open-collector/drain negative logic input that is referenced to GND. Applying a low-level ground signal to this input disables the module’s output and turns off the output voltage. When the Inhibit (See Datasheet)", 5 VO ADJUST (in) "A 1% resistor must be directly connected between this pin and pin 7 (GND) to set the output voltage to a value higher than 0.8 V. The temperature stability of the resistor should be 100 ppm/degreesC (or better). The set (See Datasheet)", 6 VO SENSE (in) "The sense input allows the regulation circuit to compensate for voltage drop between the module and the load. For optimal voltage accuracy, VO Sense should be connected to Vout. It can also be left disconnected.", 7 GND (power) "This is the common ground connection for the VI and VO power connections. It is also the 0 Vdc reference for the control inputs.", 8 VO (power) "The regulated positive power output with respect to the GND node.", 9 VO (power) "The regulated positive power output with respect to the GND node.", 10 GND (power) "This is the common ground connection for the VI and VO power connections. It is also the 0 Vdc reference for the control inputs.", 11 TRACK (in) "This is an analog control input that enables the output voltage to follow an external voltage. This pin becomes active typically 20 ms after the input voltage has been applied, and allows direct control of the output voltage (See Datasheet)", 12 ~{MARGIN DOWN} (in) "When this input is asserted to GND, the output voltage is decreased by 5% from the nominal. The input requires an open-collector (open-drain) interface. It is not TTL compatible. A lower percent change can be accomodated (See Datasheet)", 13 ~{MARGIN UP} (in) "When this input is asserted to GND, the output voltage is increased by 5%. The input requires an open-collector (open-drain) interface. It is not TTL compatible. The percent change can be reduced with a series resistor. For (See Datasheet)"

## PTH12030WAZ
designator U?
1.2 to 5.5 V, 26 A, 12 V Input Non-Isolated Wide Adjust Module, -40 to 85 degC, 13-pin Module (EUN13), Pb-Free (RoHS); Manufacturer: Texas Instruments; PartNumber: PTH12030WAZ; Iout(Max)(A): 26; Regulated Outputs(#): 1; SubFamily: Non-Isolated POL; Vin(Max)(V): 13.8; Vin(Min)(V): 10.2; VO Adjustable: TRUE; Vout(Max)(V): 5.5; Vout(Min)(V): 1.2; DatasheetVersion: SLTS211H; PackageVersion: 4204989/B; PackageReference: EUN13; PackageDescription: 13-Pin Plastic Special Shape. Body 28.45 x 34.8 mm; Supplier 1: Digi-Key; Supplier Part Number 1: 296-20471-ND; Supplier 2: Farnell; Supplier Part Number 2: 1103309; Supplier 3: Newark; Supplier Part Number 3: 37K0748; Supplier 4: Mouser; Supplier Part Number 4: 595-PTH12030WAZ; Eco-Plan: Pb-Free (RoHS); Mounting Technology: Surface Mount; ComponentLink1Description: Manufacturer URL; ComponentLink1URL: http://www.ti.com/; ComponentLink2Description: Datasheet; ComponentLink2URL: http://www.ti.com/general/docs/lit/getliterature.tsp?genericPartNumber=PTH12030W&fileType=pdf; ComponentLink3Description: Package Specification; ComponentLink3URL: http://www.ti.com/lit/ml/mpds135a/mpds135a.pdf; ComponentLink4Description: URL Link1; ComponentLink4URL: Samples URL:http://www.ti.com/product/pth12030w#samples
footprint TI-EUN13_V (Module, 13-Leads, Body 34.8x28.45mm)
pins: 1 GND (power) "This is the common ground connection for the VI and VO power connections. It is also the 0 Vdc reference for the control inputs.", 2 VI (power) "The positive input voltage power node to the module, which is referenced to common GND.", 3 GND (power) "This is the common ground connection for the VI and VO power connections. It is also the 0 Vdc reference for the control inputs.", 4 ~{INHIBIT} (in) "The Inhibit pin is an open-collector/drain negative logic input that is referenced to GND. Applying a low-level ground signal to this input disables the module’s output and turns off the output voltage. When the Inhibit (See Datasheet)", 5 VO ADJUST (in) "A 1% resistor must be directly connected between this pin and pin 7 (GND) to set the output voltage to a value higher than 0.8 V. The temperature stability of the resistor should be 100 ppm/degreesC (or better). The set (See Datasheet)", 6 VO SENSE (in) "The sense input allows the regulation circuit to compensate for voltage drop between the module and the load. For optimal voltage accuracy, VO Sense should be connected to Vout. It can also be left disconnected.", 7 GND (power) "This is the common ground connection for the VI and VO power connections. It is also the 0 Vdc reference for the control inputs.", 8 VO (power) "The regulated positive power output with respect to the GND node.", 9 VO (power) "The regulated positive power output with respect to the GND node.", 10 GND (power) "This is the common ground connection for the VI and VO power connections. It is also the 0 Vdc reference for the control inputs.", 11 TRACK (in) "This is an analog control input that enables the output voltage to follow an external voltage. This pin becomes active typically 20 ms after the input voltage has been applied, and allows direct control of the output voltage (See Datasheet)", 12 ~{MARGIN DOWN} (in) "When this input is asserted to GND, the output voltage is decreased by 5% from the nominal. The input requires an open-collector (open-drain) interface. It is not TTL compatible. A lower percent change can be accomodated (See Datasheet)", 13 ~{MARGIN UP} (in) "When this input is asserted to GND, the output voltage is increased by 5%. The input requires an open-collector (open-drain) interface. It is not TTL compatible. The percent change can be reduced with a series resistor. For (See Datasheet)"